# Altium schematic symbol library TSV63x-TSV63xA.SchLib: 1 symbol
Pins are listed as number, name and electrical type; pins without a type are passive.

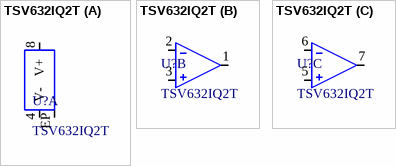
[diagram p0: symbol TSV632IQ2T]

## TSV632IQ2T
designator U?
General Purpose Amplifier 2 Circuit Rail-to-Rail 8-DFN (2x2); Manufacturer 1: STMicroelectronics; Manufacturer Part Number 1: TSV632IQ2T; Type: TSV632IQ2T
footprint DFN-8_2X2_0.5_C
part A pins: 4 V-, 8 V+, EP
part B pins: 1 OUT1, 2 IN1-, 3 IN1+
part C pins: 5 IN2+, 6 IN2-, 7 OUT2